# EAGLE library part BLUE_PILL_BOARD (library bluePillBoard)
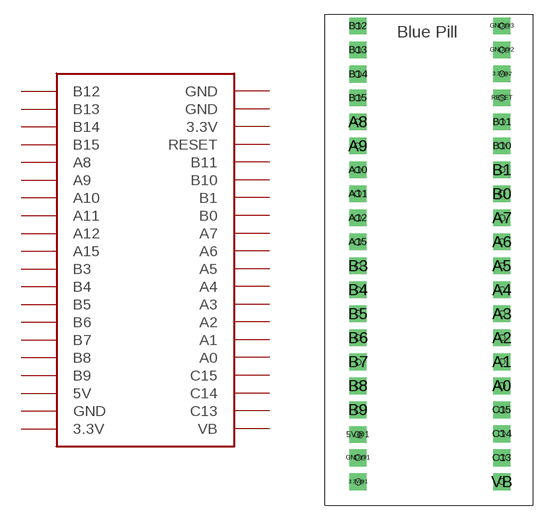
[diagram p0: symbol with the pads of BLUE_PILL_BOARD; footprint BLUE_PILL_BOARD]

Designator prefix -

## BLUE_PILL_BOARD  [BLUE_PILL_BOARD]
3.3V@1  3.3V  pwr
3.3V@2  3.3V  pwr
5V@1  5V
A0  A0
A1  A1
A2  A2
A3  A3
A4  A4
A5  A5
A6  A6
A7  A7
A8  A8
A9  A9
A10  A10
A11  A11
A12  A12
A15  A15
B0  B0
B1  B1
B3  B3
B4  B4
B5  B5
B6  B6
B7  B7
B8  B8
B9  B9
B10  B10
B11  B11
B12  B12
B13  B13
B14  B14
B15  B15
C13  C13
C14  C14
C15  C15
GND@1  GND  pwr
GND@2  GND  pwr
GND@3  GND  pwr
RESET  RESET
VB  VB

## Footprint BLUE_PILL_BOARD (pad centres in mm)
drill 0.8 pad 1.778 square: 3.3V@1 3.5,2.5; 3.3V@2 18.74,45.68; 5V@1 3.5,7.5; A0 18.74,12.66; A1 18.74,15.2; A2 18.74,17.74; A3 18.74,20.28; A4 18.74,22.82; A5 18.74,25.36; A6 18.74,27.9; A7 18.74,30.44; A8 3.5,40.6; A9 3.5,38.06; A10 3.5,35.52; A11 3.5,32.98; A12 3.5,30.44; A15 3.5,27.9; B0 18.74,32.98; B1 18.74,35.52; B3 3.5,25.36; B4 3.5,22.82; B5 3.5,20.28; B6 3.5,17.74; B7 3.5,15.2; B8 3.5,12.66; B9 3.5,10.12; B10 18.74,38.06; B11 18.74,40.6; B12 3.5,50.76; B13 3.5,48.22; B14 3.5,45.65; B15 3.5,43.14; C13 18.74,5.04; C14 18.74,7.58; C15 18.74,10.12; GND@1 3.5,5.04; GND@2 18.74,48.22; GND@3 18.74,50.76; RESET 18.74,43.14; VB 18.74,2.5
hole 0.6 at 3.5,50.75
hole 0.6 at 3.525,48.225
hole 0.6 at 3.5,45.65
hole 0.6 at 3.5,43.15
hole 0.6 at 3.475,40.6
hole 0.6 at 3.475,38.05
hole 0.6 at 3.5,35.525
hole 0.6 at 3.5,33
hole 0.6 at 3.5,30.425
hole 0.6 at 3.5,27.875
hole 0.6 at 3.5,25.375
hole 0.6 at 3.525,22.825
hole 0.6 at 3.525,20.325
hole 0.6 at 3.5,17.75
hole 0.6 at 3.525,15.175
hole 0.6 at 3.5,12.675
hole 0.6 at 3.5,10.1
hole 0.6 at 3.475,7.5
hole 0.6 at 3.5,5.05
hole 0.6 at 3.525,2.5
hole 0.6 at 18.75,2.525
hole 0.6 at 18.775,5.075
hole 0.6 at 18.725,7.6
hole 0.6 at 18.75,10.1
hole 0.6 at 18.725,12.65
hole 0.6 at 18.75,15.2
hole 0.6 at 18.75,17.75
hole 0.6 at 18.75,20.275
hole 0.6 at 18.75,22.825
hole 0.6 at 18.75,25.35
hole 0.6 at 18.725,27.9
hole 0.6 at 18.75,30.425
hole 0.6 at 18.725,33
hole 0.6 at 18.75,35.525
hole 0.6 at 18.725,38.075
hole 0.6 at 18.75,40.6
hole 0.6 at 18.725,43.15
hole 0.6 at 18.75,45.675
hole 0.6 at 18.75,48.225
hole 0.6 at 18.75,50.75